# EAGLE library part PROMINI (library arduino)
Arduino Pro - Mini compatible device Reference: https://www.arduino.cc/en/Main/ArduinoBoardProMini
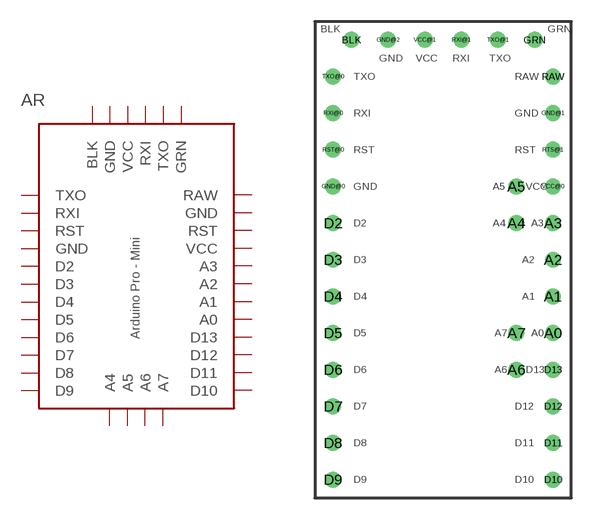
[diagram p0: symbol with the pads of PROMINI; footprint PROMINI]

Designator prefix AR

## PROMINI (MF: ARDUINO; MPN: MINI)  [PROMINI]
A0  A0  in
A1  A1  in
A2  A2  in
A3  A3  in
A4  A4  in
A5  A5  in
A6  A6  in
A7  A7  in
BLK  BLK
D2  D2
D3  D3
D4  D4
D5  D5
D6  D6
D7  D7
D8  D8
D9  D9
D10  D10
D11  D11
D12  D12
D13  D13
GND@0  GND  pwr
GND@1  GND  pwr
GND@2  GND  pwr
GRN  GRN
RAW  RAW  pwr
RST@0  RST  in
RTS@1  RST  in
RXI@0  RXI  in
RXI@1  RXI  in
TXO@0  TXO  out
TXO@1  TXO  out
VCC@0  VCC  pwr
VCC@1  VCC  pwr

## Footprint PROMINI (pad centres in mm)
Arduino Pro Mini footprint
drill 0.6 pad 1.016: A0 -15.24,-1.27; A1 -15.24,1.27; A2 -15.24,3.81; A3 -15.24,6.35; A4 -17.78,6.35; A5 -17.78,8.89; A6 -17.78,-3.81; A7 -17.78,-1.27; BLK -29.21,19.05; D2 -30.48,6.35; D3 -30.48,3.81; D4 -30.48,1.27; D5 -30.48,-1.27; D6 -30.48,-3.81; D7 -30.48,-6.35; D8 -30.48,-8.89; D9 -30.48,-11.43; D10 -15.24,-11.43; D11 -15.24,-8.89; D12 -15.24,-6.35; D13 -15.24,-3.81; GND@0 -30.48,8.89; GND@1 -15.24,13.97; GND@2 -26.67,19.05; GRN -16.51,19.05; RAW -15.24,16.51; RST@0 -30.48,11.43; RTS@1 -15.24,11.43; RXI@0 -30.48,13.97; RXI@1 -21.59,19.05; TXO@0 -30.48,16.51; TXO@1 -19.05,19.05; VCC@0 -15.24,8.89; VCC@1 -24.13,19.05